# Altium footprint library SOP.PcbLib: 58 footprints (part 4 of 4)
Each footprint in its own frame and in the unit in brackets; x right, y up, seen from the top. Pads: shape width x height; smd on the part's side, far side on the other; paste and mask are expansions set on the pad; w line width, h text height; cw(c..) or ccw(c..) is an arc to the next point about the centre after c.
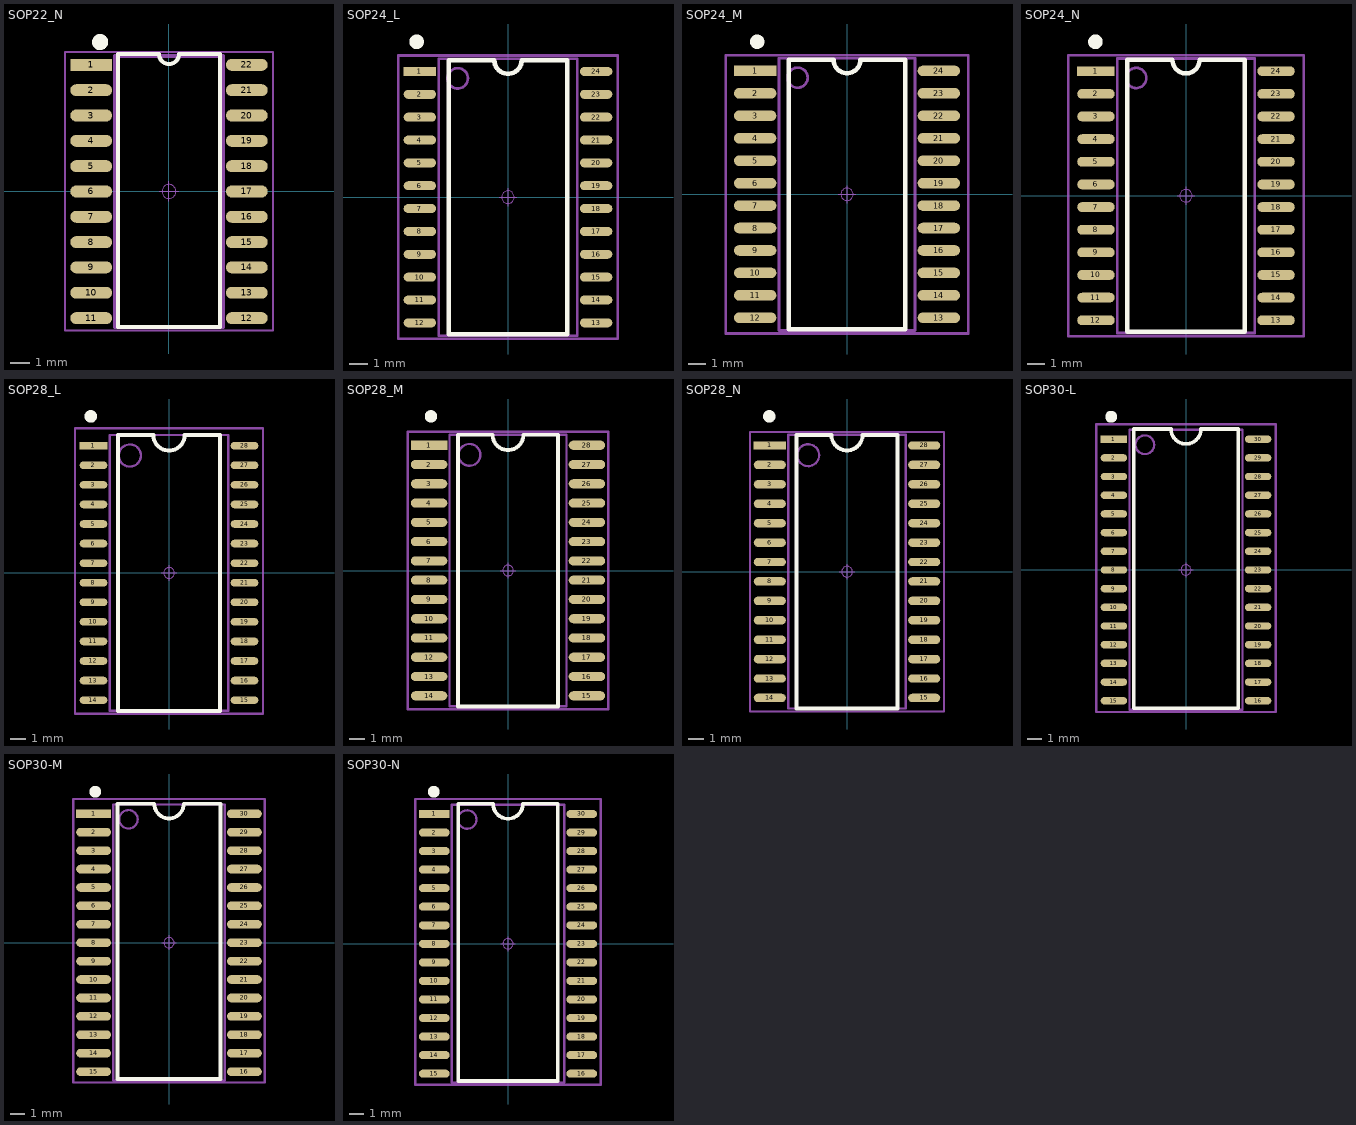
[diagram p3: the footprints below, top view; thin cyan lines are the x and y axes]

## SOP22_N [mm] "13.6*5.4*1.8mm（长宽高）"
height 1.8
pads (22):
  rect 2.1x0.6 smd: 1(-3.9,6.35)
  oval 2.1x0.6 smd: 2(-3.9,5.08) 3(-3.9,3.81) 4(-3.9,2.54) 5(-3.9,1.27) 6(-3.9,0) 7(-3.9,-1.27) 8(-3.9,-2.54) 9(-3.9,-3.81) 10(-3.9,-5.08) 11(-3.9,-6.35) 12(3.9,-6.35) 13(3.9,-5.08) 14(3.9,-3.81) 15(3.9,-2.54) 16(3.9,-1.27) 17(3.9,0) 18(3.9,1.27) 19(3.9,2.54) 20(3.9,3.81) 21(3.9,5.08) 22(3.9,6.35)
Top Overlay:
  circle w0.5: c-3.457,7.493 r0.155
  lines w0.2: -2.549,6.905 -2.549,-6.802 2.549,-6.798 2.549,6.905
  lines w0.203: -2.549,6.905 -0.508,6.905 ccw(c0,6.905) 0,6.397 ccw(c0,6.905) 0.508,6.905 2.549,6.905
Mechanical 13:
  lines w0.2: -2.7,-6.8 2.7,-6.8 2.7,6.8 -2.7,6.8 -2.7,-6.8
Mechanical 15:
  circle w0.05: c0,0 r0.35
  lines w0.05: -0.5,0 0.5,0 ; 0,-0.5 0,0.5
  lines w0.1: -5.207,-6.985 5.207,-6.985 5.207,6.985 -5.207,6.985 -5.207,-6.985
3D body "SOP22.STEP": height 2.1, standoff -0.02, extent -4.053,-6.8 4.053,6.8

## SOP24_L [mm] "15.4*10.6*2.6mm（长宽高）"
height 10
pads (24):
  rect 1.8x0.5 smd: 1(-4.9,6.985)
  oval 1.8x0.5 smd: 2(-4.9,5.715) 3(-4.9,4.445) 4(-4.9,3.175) 5(-4.9,1.905) 6(-4.9,0.635) 7(-4.9,-0.635) 8(-4.9,-1.905) 9(-4.9,-3.175) 10(-4.9,-4.445) 11(-4.9,-5.715) 12(-4.9,-6.985) 13(4.9,-6.985) 14(4.9,-5.715) 15(4.9,-4.445) 16(4.9,-3.175) 17(4.9,-1.905) 18(4.9,-0.635) 19(4.9,0.635) 20(4.9,1.905) 21(4.9,3.175) 22(4.9,4.445) 23(4.9,5.715) 24(4.9,6.985)
Top Overlay:
  circle w0.5: c-5.08,8.636 r0.155
  lines w0.254: -3.302,-7.62 -3.302,7.62 -0.762,7.62 ccw(c0,7.62) 0.762,7.62 3.302,7.62 3.302,-7.62 -3.302,-7.62
Mechanical 13:
  circle w0.15: c-2.794,6.604 r0.568
  lines w0.15: -3.85,-7.7 3.85,-7.7 3.85,7.7 -3.85,7.7 -3.85,-7.7
Mechanical 15:
  circle w0.05: c0,0 r0.35
  lines w0.05: -0.5,0 0.5,0 ; 0,-0.5 0,0.5
  lines w0.15: -6.096,-7.874 6.096,-7.874 6.096,7.874 -6.096,7.874 -6.096,-7.874
3D body "SOP24.STEP": height 2.7, standoff 0, extent -5.153,-7.7 5.153,7.7

## SOP24_M [mm] "15.4*10.6*2.6mm（长宽高）"
height 10
pads (24):
  rect 2.4x0.6 smd: 1(-5.2,6.985)
  oval 2.4x0.6 smd: 2(-5.2,5.715) 3(-5.2,4.445) 4(-5.2,3.175) 5(-5.2,1.905) 6(-5.2,0.635) 7(-5.2,-0.635) 8(-5.2,-1.905) 9(-5.2,-3.175) 10(-5.2,-4.445) 11(-5.2,-5.715) 12(-5.2,-6.985) 13(5.2,-6.985) 14(5.2,-5.715) 15(5.2,-4.445) 16(5.2,-3.175) 17(5.2,-1.905) 18(5.2,-0.635) 19(5.2,0.635) 20(5.2,1.905) 21(5.2,3.175) 22(5.2,4.445) 23(5.2,5.715) 24(5.2,6.985)
Top Overlay:
  circle w0.5: c-5.08,8.636 r0.155
  lines w0.254: -3.302,-7.62 -3.302,7.62 -0.762,7.62 ccw(c0,7.62) 0.762,7.62 3.302,7.62 3.302,-7.62 -3.302,-7.62
Mechanical 13:
  circle w0.15: c-2.794,6.604 r0.568
  lines w0.15: -3.85,-7.7 -3.85,7.7 3.85,7.7 3.85,-7.7 -3.85,-7.7
Mechanical 15:
  circle w0.05: c0,0 r0.35
  lines w0.05: -0.5,0 0.5,0 ; 0,-0.5 0,0.5
  lines w0.15: -6.858,-7.874 6.858,-7.874 6.858,7.874 -6.858,7.874 -6.858,-7.874
3D body "SOP24.STEP": height 2.7, standoff 0, extent -5.153,-7.7 5.153,7.7

## SOP24_N [mm] "15.4*10.6*2.6mm（长宽高）"
height 10
pads (24):
  rect 2.1x0.55 smd: 1(-5.05,6.985)
  oval 2.1x0.55 smd: 2(-5.05,5.715) 3(-5.05,4.445) 4(-5.05,3.175) 5(-5.05,1.905) 6(-5.05,0.635) 7(-5.05,-0.635) 8(-5.05,-1.905) 9(-5.05,-3.175) 10(-5.05,-4.445) 11(-5.05,-5.715) 12(-5.05,-6.985) 13(5.05,-6.985) 14(5.05,-5.715) 15(5.05,-4.445) 16(5.05,-3.175) 17(5.05,-1.905) 18(5.05,-0.635) 19(5.05,0.635) 20(5.05,1.905) 21(5.05,3.175) 22(5.05,4.445) 23(5.05,5.715) 24(5.05,6.985)
Top Overlay:
  circle w0.5: c-5.08,8.636 r0.155
  lines w0.254: -3.302,-7.62 3.302,-7.62 3.302,7.62 0.762,7.62 cw(c0,7.62) -0.762,7.62 -3.302,7.62 -3.302,-7.62
Mechanical 13:
  circle w0.15: c-2.794,6.604 r0.568
  lines w0.15: -3.85,-7.7 -3.85,7.7 3.85,7.7 3.85,-7.7 -3.85,-7.7
Mechanical 15:
  circle w0.05: c0,0 r0.35
  lines w0.05: -0.5,0 0.5,0 ; 0,-0.5 0,0.5
  lines w0.15: -6.604,-7.874 6.604,-7.874 6.604,7.874 -6.604,7.874 -6.604,-7.874
3D body "SOP24.STEP": height 2.7, standoff 0, extent -5.153,-7.7 5.153,7.7

## SOP28_L [mm] "17.9*10.6*2.6mm（长宽高）"
pads (28):
  rect 1.8x0.5 smd: 1(-4.9,8.255)
  oval 1.8x0.5 smd: 2(-4.9,6.985) 3(-4.9,5.715) 4(-4.9,4.445) 5(-4.9,3.175) 6(-4.9,1.905) 7(-4.9,0.635) 8(-4.9,-0.635) 9(-4.9,-1.905) 10(-4.9,-3.175) 11(-4.9,-4.445) 12(-4.9,-5.715) 13(-4.9,-6.985) 14(-4.9,-8.255) 15(4.9,-8.255) 16(4.9,-6.985) 17(4.9,-5.715) 18(4.9,-4.445) 19(4.9,-3.175) 20(4.9,-1.905) 21(4.9,-0.635) 22(4.9,0.635) 23(4.9,1.905) 24(4.9,3.175) 25(4.9,4.445) 26(4.9,5.715) 27(4.9,6.985) 28(4.9,8.255)
Top Overlay:
  circle w0.5: c-5.08,10.16 r0.155
  lines w0.254: -3.302,-8.95 3.302,-8.95 3.302,8.95 1.016,8.95 cw(c0,8.95) -1.016,8.95 -3.302,8.95 -3.302,-8.95
Mechanical 13:
  circle w0.15: c-2.54,7.62 r0.718
  lines w0.15: -3.85,-8.95 3.85,-8.95 3.85,8.95 -3.85,8.95 -3.85,-8.95
Mechanical 15:
  circle w0.05: c0,0 r0.35
  lines w0.05: -0.5,0 0.5,0 ; 0,-0.5 0,0.5
  lines w0.15: -6.096,-9.144 6.096,-9.144 6.096,9.398 -6.096,9.398 -6.096,-9.144
3D body "SOP28.STEP": height 2.7, standoff 0, extent -5.153,-8.95 5.153,8.95

## SOP28_M [mm] "17.9*10.6*2.6mm（长宽高）"
pads (28):
  rect 2.4x0.6 smd: 1(-5.2,8.255)
  oval 2.4x0.6 smd: 2(-5.2,6.985) 3(-5.2,5.715) 4(-5.2,4.445) 5(-5.2,3.175) 6(-5.2,1.905) 7(-5.2,0.635) 8(-5.2,-0.635) 9(-5.2,-1.905) 10(-5.2,-3.175) 11(-5.2,-4.445) 12(-5.2,-5.715) 13(-5.2,-6.985) 14(-5.2,-8.255) 15(5.2,-8.255) 16(5.2,-6.985) 17(5.2,-5.715) 18(5.2,-4.445) 19(5.2,-3.175) 20(5.2,-1.905) 21(5.2,-0.635) 22(5.2,0.635) 23(5.2,1.905) 24(5.2,3.175) 25(5.2,4.445) 26(5.2,5.715) 27(5.2,6.985) 28(5.2,8.255)
Top Overlay:
  circle w0.5: c-5.08,10.16 r0.155
  lines w0.254: -3.302,-8.95 3.302,-8.95 3.302,8.95 1.016,8.95 cw(c0,8.95) -1.016,8.95 -3.302,8.95 -3.302,-8.95
Mechanical 13:
  circle w0.15: c-2.54,7.62 r0.718
  lines w0.15: -3.85,-8.95 -3.85,8.95 3.85,8.95 3.85,-8.95 -3.85,-8.95
Mechanical 15:
  circle w0.05: c0,0 r0.35
  lines w0.05: -0.5,0 0.5,0 ; 0,-0.5 0,0.5
  lines w0.15: -6.604,-9.144 6.604,-9.144 6.604,9.144 -6.604,9.144 -6.604,-9.144
3D body "SOP28.STEP": height 2.7, standoff 0, extent -5.153,-8.95 5.153,8.95

## SOP28_N [mm] "17.9*10.6*2.6mm（长宽高）"
pads (28):
  rect 2.1x0.55 smd: 1(-5.05,8.255)
  oval 2.1x0.55 smd: 2(-5.05,6.985) 3(-5.05,5.715) 4(-5.05,4.445) 5(-5.05,3.175) 6(-5.05,1.905) 7(-5.05,0.635) 8(-5.05,-0.635) 9(-5.05,-1.905) 10(-5.05,-3.175) 11(-5.05,-4.445) 12(-5.05,-5.715) 13(-5.05,-6.985) 14(-5.05,-8.255) 15(5.05,-8.255) 16(5.05,-6.985) 17(5.05,-5.715) 18(5.05,-4.445) 19(5.05,-3.175) 20(5.05,-1.905) 21(5.05,-0.635) 22(5.05,0.635) 23(5.05,1.905) 24(5.05,3.175) 25(5.05,4.445) 26(5.05,5.715) 27(5.05,6.985) 28(5.05,8.255)
Top Overlay:
  circle w0.5: c-5.08,10.16 r0.155
  lines w0.254: -3.302,-8.95 3.302,-8.95 3.302,8.95 1.016,8.95 cw(c0,8.95) -1.016,8.95 -3.302,8.95 -3.302,-8.95
Mechanical 13:
  circle w0.15: c-2.54,7.62 r0.718
  lines w0.15: -3.85,-8.95 -3.85,8.95 3.85,8.95 3.85,-8.95 -3.85,-8.95
Mechanical 15:
  circle w0.05: c0,0 r0.35
  lines w0.05: -0.5,0 0.5,0 ; 0,-0.5 0,0.5
  lines w0.15: -6.35,-9.144 6.35,-9.144 6.35,-8.636 6.35,9.144 -6.35,9.144 -6.35,-9.144
3D body "SOP28.STEP": height 2.7, standoff 0, extent -5.153,-8.95 5.153,8.95

## SOP30-L [mm] "19*10.3*2.6mm（长宽高）"
pads (30):
  rect 1.8x0.5 smd: 1(-4.9,8.89)
  oval 1.8x0.5 smd: 2(-4.9,7.62) 3(-4.9,6.35) 4(-4.9,5.08) 5(-4.9,3.81) 6(-4.9,2.54) 7(-4.9,1.27) 8(-4.9,0) 9(-4.9,-1.27) 10(-4.9,-2.54) 11(-4.9,-3.81) 12(-4.9,-5.08) 13(-4.9,-6.35) 14(-4.9,-7.62) 15(-4.9,-8.89) 16(4.9,-8.89) 17(4.9,-7.62) 18(4.9,-6.35) 19(4.9,-5.08) 20(4.9,-3.81) 21(4.9,-2.54) 22(4.9,-1.27) 23(4.9,0) 24(4.9,1.27) 25(4.9,2.54) 26(4.9,3.81) 27(4.9,5.08) 28(4.9,6.35) 29(4.9,7.62) 30(4.9,8.89)
Top Overlay:
  circle w0.5: c-5.08,10.414 r0.155
  lines w0.254: -3.556,-9.398 3.556,-9.398 3.556,9.585 1.016,9.585 cw(c0,9.585) -1.016,9.585 -3.556,9.585 -3.556,-9.398
Mechanical 13:
  circle w0.15: c-2.794,8.509 r0.635
  lines w0.15: -3.85,-9.5 -3.85,9.525 3.85,9.525 3.85,-9.5 -3.85,-9.5
Mechanical 15:
  circle w0.05: c0,0 r0.35
  lines w0.05: -0.5,0 0.5,0 ; 0,-0.5 0,0.5
  lines w0.15: -6.096,-9.652 -6.096,9.906 6.096,9.906 6.096,-9.652 -6.096,-9.652
3D body "SOP30.STEP": height 2.7, standoff 0, extent -5.153,-9.5 5.153,9.5

## SOP30-M [mm] "19*10.3*2.6mm（长宽高）"
pads (30):
  rect 2.4x0.6 smd: 1(-5.2,8.89)
  oval 2.4x0.6 smd: 2(-5.2,7.62) 3(-5.2,6.35) 4(-5.2,5.08) 5(-5.2,3.81) 6(-5.2,2.54) 7(-5.2,1.27) 8(-5.2,0) 9(-5.2,-1.27) 10(-5.2,-2.54) 11(-5.2,-3.81) 12(-5.2,-5.08) 13(-5.2,-6.35) 14(-5.2,-7.62) 15(-5.2,-8.89) 16(5.2,-8.89) 17(5.2,-7.62) 18(5.2,-6.35) 19(5.2,-5.08) 20(5.2,-3.81) 21(5.2,-2.54) 22(5.2,-1.27) 23(5.2,0) 24(5.2,1.27) 25(5.2,2.54) 26(5.2,3.81) 27(5.2,5.08) 28(5.2,6.35) 29(5.2,7.62) 30(5.2,8.89)
Top Overlay:
  circle w0.5: c-5.08,10.414 r0.155
  lines w0.254: -3.556,-9.398 3.556,-9.398 3.556,9.585 1.016,9.585 cw(c0,9.585) -1.016,9.585 -3.556,9.585 -3.556,-9.398
Mechanical 13:
  circle w0.15: c-2.794,8.509 r0.635
  lines w0.15: -3.85,-9.5 -3.85,9.525 3.85,9.525 3.85,-9.5 -3.85,-9.5
Mechanical 15:
  circle w0.05: c0,0 r0.35
  lines w0.05: -0.5,0 0.5,0 ; 0,-0.5 0,0.5
  lines w0.15: -6.604,-9.652 6.604,-9.652 6.604,-8.89 6.604,9.906 -6.604,9.906 -6.604,-9.652
3D body "SOP30.STEP": height 2.7, standoff 0, extent -5.153,-9.5 5.153,9.5

## SOP30-N [mm] "19*10.3*2.6mm（长宽高）"
pads (30):
  rect 2.1x0.55 smd: 1(-5.05,8.89)
  oval 2.1x0.55 smd: 2(-5.05,7.62) 3(-5.05,6.35) 4(-5.05,5.08) 5(-5.05,3.81) 6(-5.05,2.54) 7(-5.05,1.27) 8(-5.05,0) 9(-5.05,-1.27) 10(-5.05,-2.54) 11(-5.05,-3.81) 12(-5.05,-5.08) 13(-5.05,-6.35) 14(-5.05,-7.62) 15(-5.05,-8.89) 16(5.05,-8.89) 17(5.05,-7.62) 18(5.05,-6.35) 19(5.05,-5.08) 20(5.05,-3.81) 21(5.05,-2.54) 22(5.05,-1.27) 23(5.05,0) 24(5.05,1.27) 25(5.05,2.54) 26(5.05,3.81) 27(5.05,5.08) 28(5.05,6.35) 29(5.05,7.62) 30(5.05,8.89)
Top Overlay:
  circle w0.5: c-5.08,10.414 r0.155
  lines w0.254: -3.4,-9.398 -3.4,9.585 -1.016,9.585 ccw(c0,9.585) 1.016,9.585 3.4,9.585 3.4,-9.398 -3.4,-9.398
Mechanical 13:
  circle w0.15: c-2.794,8.509 r0.635
  lines w0.15: -3.85,-9.5 -3.85,9.525 3.85,9.525 3.85,-9.5 -3.85,-9.5
Mechanical 15:
  circle w0.05: c0,0 r0.35
  lines w0.05: -0.5,0 0.5,0 ; 0,-0.5 0,0.5
  lines w0.15: -6.35,-9.652 6.35,-9.652 6.35,9.906 -6.35,9.906 -6.35,-9.652
3D body "SOP30.STEP": height 2.7, standoff 0, extent -5.153,-9.5 5.153,9.5